# EAGLE library part TSEM_R2 (library TSEM)
Tiny Solar Energy Module R2
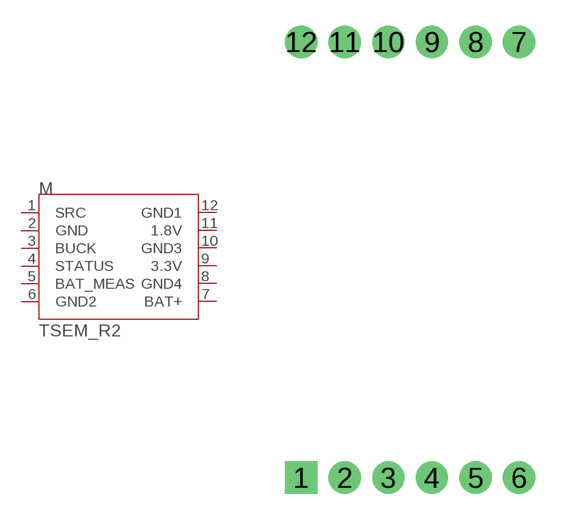
[diagram p1: symbol with the pads of TSEM_R2; footprint TSEM_R2]

Designator prefix M

## TSEM_R2  [TSEM_R2]
1  SRC
2  GND
3  BUCK
4  STATUS
5  BAT_MEAS
6  GND2
7  BAT+
8  GND4
9  3.3V
10  GND3
11  1.8V
12  GND1

## Footprint TSEM_R2 (pad centres in mm)
Tiny Solar Energy Module R2
drill 1.016 pad 1.88 square: 1 0,0
drill 1.016 pad 1.88: 2 2.54,0; 3 5.08,0; 4 7.62,0; 5 10.16,0; 6 12.7,0; 7 12.7,25.4; 8 10.16,25.4; 9 7.62,25.4; 10 5.08,25.4; 11 2.54,25.4; 12 0,25.4